# Altium integrated library TI_Logic_Specialty_Logic.IntLib: 2504 symbols (part 64 of 81)
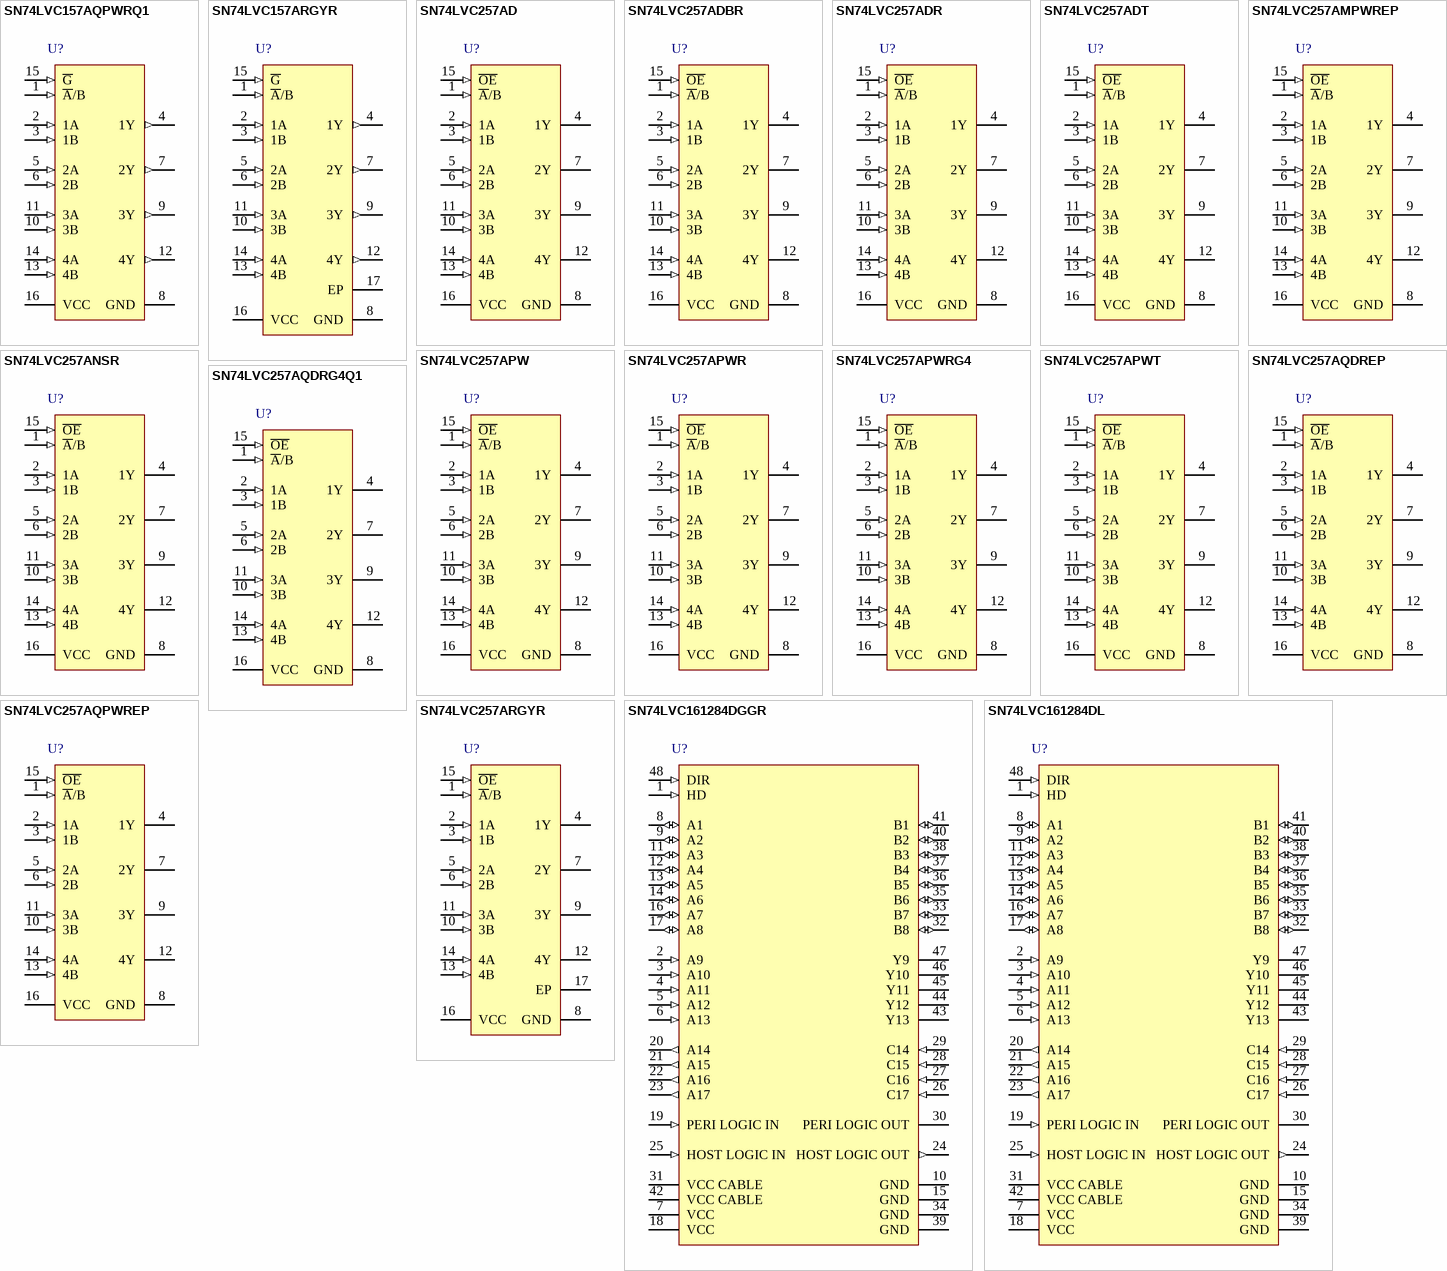
[diagram p167: symbols SN74LVC157AQPWRQ1 to SN74LVC161284DL]

## SN74LVC257AQDRG4Q1
designator U?
Automotive Catalog Quadruple 2-Line To 1-Line Data Selector/Multiplexer With 3-State Outputs, D0016A, LARGE T&R; Generic Part Number: SN74LVC257A-Q1; Manufacturer: Texas Instruments; PartNumber: SN74LVC257AQDRG4Q1; VCC(Min)(V): 2; VCC(Max)(V): 3.6; Output Type: CMOS; ICC @ Nom Voltage(Max)(mA): 0.01; Input Type: TLL/CMOS; F @ Nom Voltage(Max)(Mhz): 100; Channels(#): 4; Technology Family: LVC; Voltage(Nom)(V): 2.7,3.3; Schmitt Trigger: No; Output Drive (IOL/IOH)(Max)(mA): 24/-24; tpd @ Nom Voltage(Max)(ns): 7.5,6.4; DatasheetVersion: SCAS709B; PackageReference: D0016A; Supplier 1: Mouser; Supplier Part Number 1: 595-74LVC257AQDRG4Q1; Supplier 2: Digi-Key; Supplier Part Number 2: 296-24838-2-ND; Supplier 3: Digi-Key; Supplier Part Number 3: 296-24838-1-ND; Supplier 4: Digi-Key; Supplier Part Number 4: 296-24838-6-ND; Bits(#): 2; Operating Temperature Range(C): -40 to 125; Type: 3-State Output; Rating: Automotive; Code_JEDEC: MS-012 variation AC; ComponentLink1Description: Manufacturer URL; ComponentLink1URL: http://www.ti.com/; ComponentLink2Description: Datasheet; ComponentLink2URL: http://www.ti.com/lit/ds/symlink/sn74lvc257a-q1.pdf; ComponentLink3Description: Package Specification; ComponentLink3URL: http://www.ti.com/lit/ml/mpds178g/mpds178g.pdf
footprint D0016A_N (SOIC, 16-Leads, Body 10x4mm, Pitch 1.27mm, IPC Medium Density)
footprint D0016A_M (SOIC, 16-Leads, Body 10x4mm, Pitch 1.27mm, IPC Low Density)
footprint D0016A_L (SOIC, 16-Leads, Body 10x4mm, Pitch 1.27mm, IPC High Density)
pins: 1 ~{A}/B (in), 2 1A (in), 3 1B (in), 4 1Y (hiz), 5 2A (in), 6 2B (in), 7 2Y (hiz), 8 GND (power), 9 3Y (hiz), 10 3B (in), 11 3A (in), 12 4Y (hiz), 13 4B (in), 14 4A (in), 15 ~{OE} (in), 16 VCC (power)

## SN74LVC257AQPWREP
designator U?
Enhanced Product Quadruple 2-Line To 1-Line Data Selector/Multiplexer With 3-State Outputs, PW0016A, LARGE T&R; Generic Part Number: SN74LVC257A-EP; Manufacturer: Texas Instruments; PartNumber: SN74LVC257AQPWREP; VCC(Min)(V): 2; VCC(Max)(V): 3.6; ICC @ Nom Voltage(Max)(mA): 0.01; F @ Nom Voltage(Max)(Mhz): 100; Channels(#): 4; Rating: HiRel Enhanced Product; Technology Family: LVC; Voltage(Nom)(V): 2.7,3.3; Schmitt Trigger: No; Output Drive (IOL/IOH)(Max)(mA): 24/-24; tpd @ Nom Voltage(Max)(ns): 7.5,6.4; DatasheetVersion: SCAS736B; PackageReference: PW0016A; Supplier 1: Mouser; Supplier Part Number 1: 595-N74LVC257AQPWREP; Supplier 2: Digi-Key; Supplier Part Number 2: 296-22357-2-ND; Supplier 3: Digi-Key; Supplier Part Number 3: 296-22357-1-ND; Supplier 4: Digi-Key; Supplier Part Number 4: 296-22357-6-ND; Operating Temperature Range(C): -40 to 125,-55 to 125; Type: 3-State Output; Code_JEDEC: MO-153; ComponentLink1Description: Manufacturer URL; ComponentLink1URL: http://www.ti.com/; ComponentLink2Description: Datasheet; ComponentLink2URL: http://www.ti.com/lit/ds/symlink/sn74lvc257a-ep.pdf; ComponentLink3Description: Package Specification; ComponentLink3URL: http://www.ti.com/lit/ml/mpds361/mpds361.pdf
footprint PW0016A_N (SOP, 16-Leads, Body 5.1x4.5mm, Pitch 0.65mm, IPC Medium Density)
footprint PW0016A_M (SOP, 16-Leads, Body 5.1x4.5mm, Pitch 0.65mm, IPC Low Density)
footprint PW0016A_L (SOP, 16-Leads, Body 5.1x4.5mm, Pitch 0.65mm, IPC High Density)
pins: 1 ~{A}/B (in), 2 1A (in), 3 1B (in), 4 1Y (hiz), 5 2A (in), 6 2B (in), 7 2Y (hiz), 8 GND (power), 9 3Y (hiz), 10 3B (in), 11 3A (in), 12 4Y (hiz), 13 4B (in), 14 4A (in), 15 ~{OE} (in), 16 VCC (power)

## SN74LVC257ARGYR
designator U?
Quadruple 2-Line To 1-Line Data Selector/Multiplexer With 3-State Outputs, RGY0016A, LARGE T&R; Generic Part Number: SN74LVC257A; Manufacturer: Texas Instruments; PartNumber: SN74LVC257ARGYR; VCC(Min)(V): 1.65; VCC(Max)(V): 3.6; Output Type: CMOS; Function: Encoder/Multiplexer; ICC @ Nom Voltage(Max)(mA): 0.01; Input Type: TLL/CMOS; Bits(#): 2; F @ Nom Voltage(Max)(Mhz): 100; Configuration: 2：1; Channels(#): 4; Rating: Catalog; Technology Family: LVC; Voltage(Nom)(V): 1.8,2.5,2.7,3.3; Schmitt Trigger: No; Output Drive (IOL/IOH)(Max)(mA): 24/-24; tpd @ Nom Voltage(Max)(ns): 15.6,9.5,7.5,6.4; DatasheetVersion: SCAS294O; PackageReference: RGY0016A; Supplier 1: Mouser; Supplier Part Number 1: 595-SN74LVC257ARGYR; Supplier 2: Digi-Key; Supplier Part Number 2: 296-13969-2-ND; Supplier 3: Digi-Key; Supplier Part Number 3: 296-13969-1-ND; Supplier 4: Digi-Key; Supplier Part Number 4: 296-13969-6-ND; Operating Temperature Range(C): -40 to 85; Type: 3-State Output; Code_JEDEC: MO-241; ComponentLink1Description: Manufacturer URL; ComponentLink1URL: http://www.ti.com/; ComponentLink2Description: Datasheet; ComponentLink2URL: http://www.ti.com/lit/ds/symlink/sn74lvc257a.pdf; ComponentLink3Description: Package Specification; ComponentLink3URL: http://www.ti.com/lit/ml/mpqf115g/mpqf115g.pdf
footprint RGY0016A_V (QFN, 16-Leads, Body 4x3.5mm, Thermal Pad 2.55x2.05mm, TI Recommend)
pins: 1 ~{A}/B (in) "Select Pin, Low selects A, High selects B", 2 1A (in) "Multiplexer Signal Input", 3 1B (in) "Multiplexer Signal Input", 4 1Y (hiz) "Multiplexer Output", 5 2A (in) "Multiplexer Signal Input", 6 2B (in) "Multiplexer Signal Input", 7 2Y (hiz) "Multiplexer Output", 8 GND (power) "Ground", 9 3Y (hiz) "Multiplexer Output", 10 3B (in) "Multiplexer Signal Input", 11 3A (in) "Multiplexer Signal Input", 12 4Y (hiz) "Multiplexer Output", 13 4B (in) "Multiplexer Signal Input", 14 4A (in) "Multiplexer Signal Input", 15 ~{OE} (in) "Active low Output enable", 16 VCC (power) "Power pin", 17 EP

## SN74LVC161284DGGR
designator U?
19-Bit Bus Interface With 3-State Outputs, DGG0048A, LARGE T&R; Generic Part Number: SN74LVC161284; Manufacturer: Texas Instruments; PartNumber: SN74LVC161284DGGR; VCC(Min)(V): 3; VCC(Max)(V): 3.6; Output Type: CMOS; ICC @ Nom Voltage(Max)(mA): 0.8; Input Type: TTL,CMOS; Bits(#): 19; F @ Nom Voltage(Max)(Mhz): 150; Technology Family: LVC; Voltage(Nom)(V): 3.3; Schmitt Trigger: No; Output Drive (IOL/IOH)(Max)(mA): 84/-14; tpd @ Nom Voltage(Max)(ns): 40; DatasheetVersion: SCAS583J; PackageReference: DGG0048A; Supplier 1: Mouser; Supplier Part Number 1: 595-SNLVC161284DGGR; Supplier 2: Digi-Key; Supplier Part Number 2: 296-8466-2-ND; Supplier 3: Digi-Key; Supplier Part Number 3: 296-8466-1-ND; Supplier 4: Digi-Key; Supplier Part Number 4: 296-8466-6-ND; Operating Temperature Range(C): 0 to 70; Code_JEDEC: MO-153; ComponentLink1Description: Manufacturer URL; ComponentLink1URL: http://www.ti.com/; ComponentLink2Description: Datasheet; ComponentLink2URL: http://www.ti.com/lit/ds/symlink/sn74lvc161284.pdf; ComponentLink3Description: Package Specification; ComponentLink3URL: http://www.ti.com/lit/ml/mtss003d/mtss003d.pdf
footprint DGG0048A_N (TSSOP, 48-Leads, Body 12.6x6.2mm, Pitch 0.5mm, IPC Medium Density)
footprint DGG0048A_M (TSSOP, 48-Leads, Body 12.6x6.2mm, Pitch 0.5mm, IPC Low Density)
footprint DGG0048A_L (TSSOP, 48-Leads, Body 12.6x6.2mm, Pitch 0.5mm, IPC High Density)
pins: 1 HD (in), 2 A9 (in), 3 A10 (in), 4 A11 (in), 5 A12 (in), 6 A13 (in), 7 VCC (power), 8 A1 (io), 9 A2 (io), 10 GND (power), 11 A3 (io), 12 A4 (io), 13 A5 (io), 14 A6 (io), 15 GND (power), 16 A7 (io), 17 A8 (io), 18 VCC (power), 19 PERI LOGIC IN (in), 20 A14 (out), 21 A15 (out), 22 A16 (out), 23 A17 (out), 24 HOST LOGIC OUT (out), 25 HOST LOGIC IN (in), 26 C17 (in), 27 C16 (in), 28 C15 (in), 29 C14 (in), 30 PERI LOGIC OUT (oc), 31 VCC CABLE (power), 32 B8 (io), 33 B7 (io), 34 GND (power), 35 B6 (io), 36 B5 (io), 37 B4 (io), 38 B3 (io), 39 GND (power), 40 B2 (io), 41 B1 (io), 42 VCC CABLE (power), 43 Y13 (oc), 44 Y12 (oc), 45 Y11 (oc), 46 Y10 (oc), 47 Y9 (oc), 48 DIR (in)

## SN74LVC161284DL
designator U?
19-Bit Bus Interface With 3-State Outputs, DL0048A, TUBE; Generic Part Number: SN74LVC161284; Manufacturer: Texas Instruments; PartNumber: SN74LVC161284DL; VCC(Min)(V): 3; VCC(Max)(V): 3.6; Output Type: CMOS; ICC @ Nom Voltage(Max)(mA): 0.8; Input Type: TTL,CMOS; Bits(#): 19; F @ Nom Voltage(Max)(Mhz): 150; Technology Family: LVC; Voltage(Nom)(V): 3.3; Schmitt Trigger: No; Output Drive (IOL/IOH)(Max)(mA): 84/-14; tpd @ Nom Voltage(Max)(ns): 40; DatasheetVersion: SCAS583J; PackageReference: DL0048A; Supplier 1: Mouser; Supplier Part Number 1: 595-SN74LVC161284DL; Supplier 2: Digi-Key; Supplier Part Number 2: 296-8467-5-ND; Operating Temperature Range(C): 0 to 70; Code_JEDEC: MO-118; ComponentLink1Description: Manufacturer URL; ComponentLink1URL: http://www.ti.com/; ComponentLink2Description: Datasheet; ComponentLink2URL: http://www.ti.com/lit/ds/symlink/sn74lvc161284.pdf; ComponentLink3Description: Package Specification; ComponentLink3URL: http://www.ti.com/lit/ml/mpds490/mpds490.pdf
footprint DL0048A_N (SOP, 48-Leads, Body 7.6x16mm, Pitch 0.635mm, IPC Medium Density)
footprint DL0048A_M (SOP, 48-Leads, Body 7.6x16mm, Pitch 0.635mm, IPC Low Density)
footprint DL0048A_L (SOP, 48-Leads, Body 7.6x16mm, Pitch 0.635mm, IPC High Density)
pins: 1 HD (in), 2 A9 (in), 3 A10 (in), 4 A11 (in), 5 A12 (in), 6 A13 (in), 7 VCC (power), 8 A1 (io), 9 A2 (io), 10 GND (power), 11 A3 (io), 12 A4 (io), 13 A5 (io), 14 A6 (io), 15 GND (power), 16 A7 (io), 17 A8 (io), 18 VCC (power), 19 PERI LOGIC IN (in), 20 A14 (out), 21 A15 (out), 22 A16 (out), 23 A17 (out), 24 HOST LOGIC OUT (out), 25 HOST LOGIC IN (in), 26 C17 (in), 27 C16 (in), 28 C15 (in), 29 C14 (in), 30 PERI LOGIC OUT (oc), 31 VCC CABLE (power), 32 B8 (io), 33 B7 (io), 34 GND (power), 35 B6 (io), 36 B5 (io), 37 B4 (io), 38 B3 (io), 39 GND (power), 40 B2 (io), 41 B1 (io), 42 VCC CABLE (power), 43 Y13 (oc), 44 Y12 (oc), 45 Y11 (oc), 46 Y10 (oc), 47 Y9 (oc), 48 DIR (in)

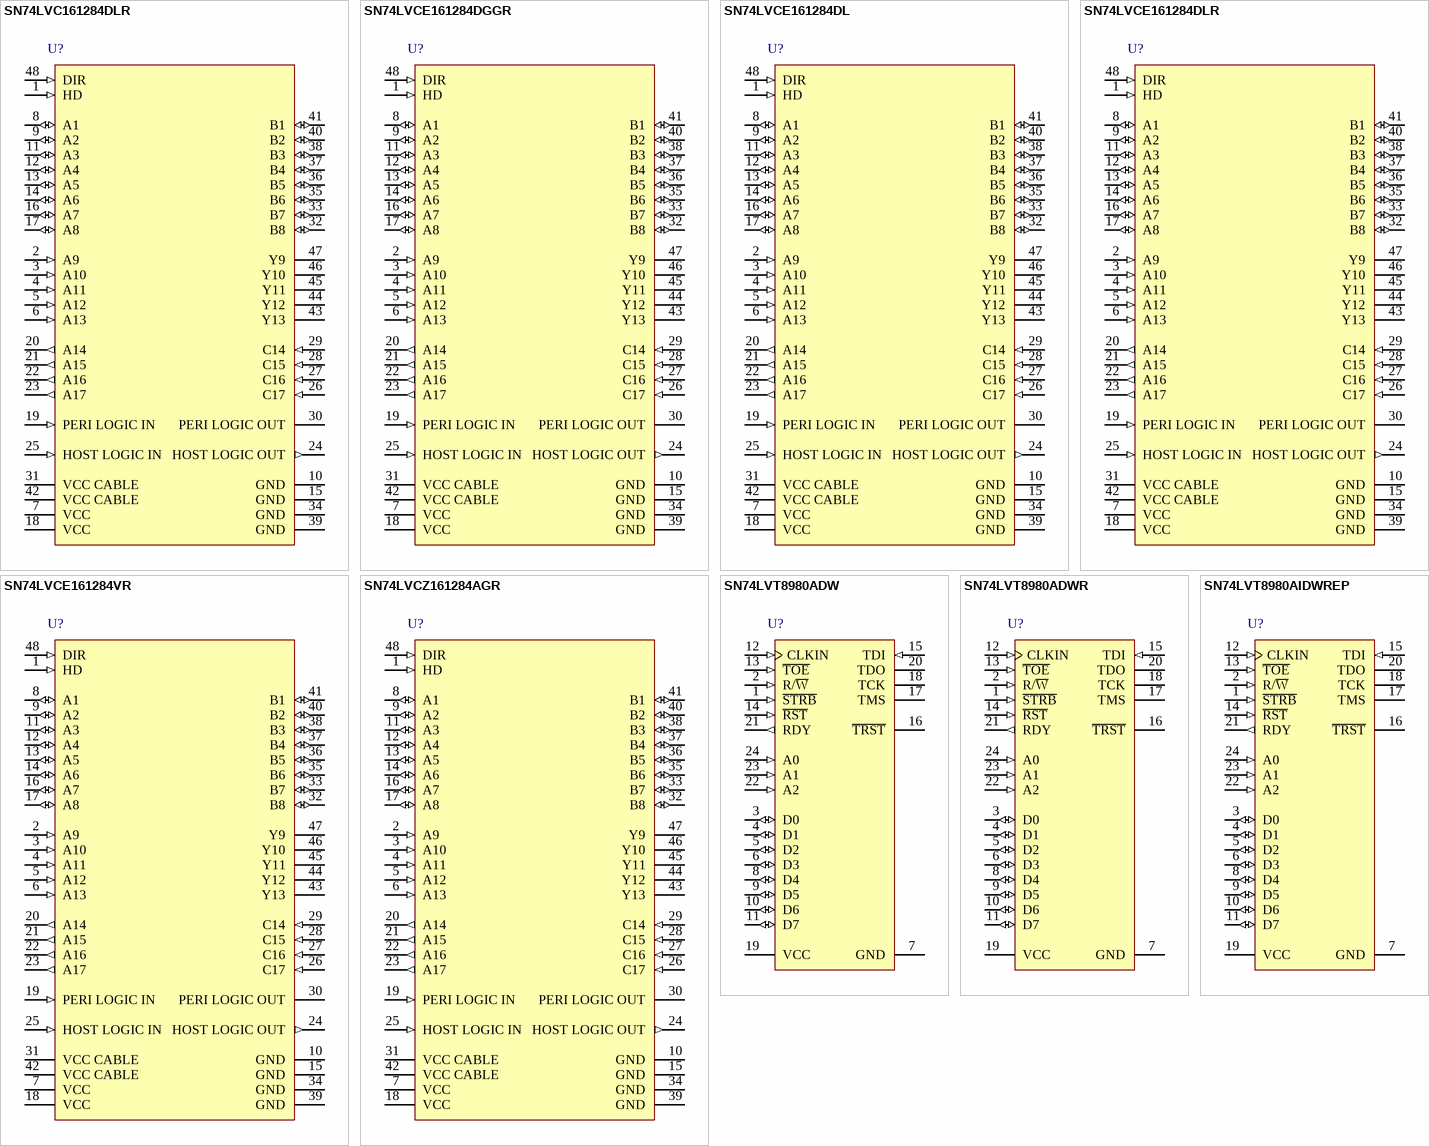
[diagram p81: symbols SN74LVC161284DLR to SN74LVT8980AIDWREP]

## SN74LVC161284DLR
designator U?
19-Bit Bus Interface With 3-State Outputs, DL0048A, LARGE T&R; Generic Part Number: SN74LVC161284; Manufacturer: Texas Instruments; PartNumber: SN74LVC161284DLR; VCC(Min)(V): 3; VCC(Max)(V): 3.6; Output Type: CMOS; ICC @ Nom Voltage(Max)(mA): 0.8; Input Type: TTL,CMOS; Bits(#): 19; F @ Nom Voltage(Max)(Mhz): 150; Technology Family: LVC; Voltage(Nom)(V): 3.3; Schmitt Trigger: No; Output Drive (IOL/IOH)(Max)(mA): 84/-14; tpd @ Nom Voltage(Max)(ns): 40; DatasheetVersion: SCAS583J; PackageReference: DL0048A; Supplier 1: Mouser; Supplier Part Number 1: 595-SN74LVC161284DLR; Supplier 2: Digi-Key; Supplier Part Number 2: 296-8467-2-ND; Supplier 3: Digi-Key; Supplier Part Number 3: 296-8467-1-ND; Supplier 4: Digi-Key; Supplier Part Number 4: 296-8467-6-ND; Operating Temperature Range(C): 0 to 70; Code_JEDEC: MO-118; ComponentLink1Description: Manufacturer URL; ComponentLink1URL: http://www.ti.com/; ComponentLink2Description: Datasheet; ComponentLink2URL: http://www.ti.com/lit/ds/symlink/sn74lvc161284.pdf; ComponentLink3Description: Package Specification; ComponentLink3URL: http://www.ti.com/lit/ml/mpds490/mpds490.pdf
footprint DL0048A_N (SOP, 48-Leads, Body 7.6x16mm, Pitch 0.635mm, IPC Medium Density)
footprint DL0048A_M (SOP, 48-Leads, Body 7.6x16mm, Pitch 0.635mm, IPC Low Density)
footprint DL0048A_L (SOP, 48-Leads, Body 7.6x16mm, Pitch 0.635mm, IPC High Density)
pins: 1 HD (in), 2 A9 (in), 3 A10 (in), 4 A11 (in), 5 A12 (in), 6 A13 (in), 7 VCC (power), 8 A1 (io), 9 A2 (io), 10 GND (power), 11 A3 (io), 12 A4 (io), 13 A5 (io), 14 A6 (io), 15 GND (power), 16 A7 (io), 17 A8 (io), 18 VCC (power), 19 PERI LOGIC IN (in), 20 A14 (out), 21 A15 (out), 22 A16 (out), 23 A17 (out), 24 HOST LOGIC OUT (out), 25 HOST LOGIC IN (in), 26 C17 (in), 27 C16 (in), 28 C15 (in), 29 C14 (in), 30 PERI LOGIC OUT (oc), 31 VCC CABLE (power), 32 B8 (io), 33 B7 (io), 34 GND (power), 35 B6 (io), 36 B5 (io), 37 B4 (io), 38 B3 (io), 39 GND (power), 40 B2 (io), 41 B1 (io), 42 VCC CABLE (power), 43 Y13 (oc), 44 Y12 (oc), 45 Y11 (oc), 46 Y10 (oc), 47 Y9 (oc), 48 DIR (in)

## SN74LVCE161284DGGR
designator U?
19-Bit IEEE 1284 Translation Transceiver with Error-Free Power Up, DGG0048A, LARGE T&R; Generic Part Number: SN74LVCE161284; Manufacturer: Texas Instruments; PartNumber: SN74LVCE161284DGGR; VCC(Min)(V): 3; VCC(Max)(V): 3.6; Output Type: CMOS; ICC @ Nom Voltage(Max)(mA): 0.8; Input Type: TTL,CMOS; Bits(#): 19; F @ Nom Voltage(Max)(Mhz): 150; Technology Family: LVC; Voltage(Nom)(V): 3.3; Schmitt Trigger: No; Output Drive (IOL/IOH)(Max)(mA): 84/-14; tpd @ Nom Voltage(Max)(ns): 30; DatasheetVersion: SCES541; PackageReference: DGG0048A; Supplier 1: Mouser; Supplier Part Number 1: 595-SN74LVCE161284DG; Supplier 2: Digi-Key; Supplier Part Number 2: 296-18822-2-ND; Supplier 3: Digi-Key; Supplier Part Number 3: 296-18822-1-ND; Supplier 4: Digi-Key; Supplier Part Number 4: 296-18822-6-ND; Operating Temperature Range(C): 0 to 70; Code_JEDEC: MO-153; ComponentLink1Description: Manufacturer URL; ComponentLink1URL: http://www.ti.com/; ComponentLink2Description: Datasheet; ComponentLink2URL: http://www.ti.com/lit/ds/symlink/sn74lvce161284.pdf; ComponentLink3Description: Package Specification; ComponentLink3URL: http://www.ti.com/lit/ml/mtss003d/mtss003d.pdf
footprint DGG0048A_N (TSSOP, 48-Leads, Body 12.6x6.2mm, Pitch 0.5mm, IPC Medium Density)
footprint DGG0048A_M (TSSOP, 48-Leads, Body 12.6x6.2mm, Pitch 0.5mm, IPC Low Density)
footprint DGG0048A_L (TSSOP, 48-Leads, Body 12.6x6.2mm, Pitch 0.5mm, IPC High Density)
pins: 1 HD (in), 2 A9 (in), 3 A10 (in), 4 A11 (in), 5 A12 (in), 6 A13 (in), 7 VCC (power), 8 A1 (io), 9 A2 (io), 10 GND (power), 11 A3 (io), 12 A4 (io), 13 A5 (io), 14 A6 (io), 15 GND (power), 16 A7 (io), 17 A8 (io), 18 VCC (power), 19 PERI LOGIC IN (in), 20 A14 (out), 21 A15 (out), 22 A16 (out), 23 A17 (out), 24 HOST LOGIC OUT (out), 25 HOST LOGIC IN (in), 26 C17 (in), 27 C16 (in), 28 C15 (in), 29 C14 (in), 30 PERI LOGIC OUT (oc), 31 VCC CABLE (power), 32 B8 (io), 33 B7 (io), 34 GND (power), 35 B6 (io), 36 B5 (io), 37 B4 (io), 38 B3 (io), 39 GND (power), 40 B2 (io), 41 B1 (io), 42 VCC CABLE (power), 43 Y13 (oc), 44 Y12 (oc), 45 Y11 (oc), 46 Y10 (oc), 47 Y9 (oc), 48 DIR (in)

## SN74LVCE161284DL
designator U?
19-Bit IEEE 1284 Translation Transceiver with Error-Free Power Up, DL0048A, TUBE; Generic Part Number: SN74LVCE161284; Manufacturer: Texas Instruments; PartNumber: SN74LVCE161284DL; VCC(Min)(V): 3; VCC(Max)(V): 3.6; Output Type: CMOS; ICC @ Nom Voltage(Max)(mA): 0.8; Input Type: TTL,CMOS; Bits(#): 19; F @ Nom Voltage(Max)(Mhz): 150; Technology Family: LVC; Voltage(Nom)(V): 3.3; Schmitt Trigger: No; Output Drive (IOL/IOH)(Max)(mA): 84/-14; tpd @ Nom Voltage(Max)(ns): 30; DatasheetVersion: SCES541; PackageReference: DL0048A; Supplier 1: Mouser; Supplier Part Number 1: 595-SN74LVCE161284DL; Supplier 2: Digi-Key; Supplier Part Number 2: SN74LVCE161284DL-ND; Operating Temperature Range(C): 0 to 70; Code_JEDEC: MO-118; ComponentLink1Description: Manufacturer URL; ComponentLink1URL: http://www.ti.com/; ComponentLink2Description: Datasheet; ComponentLink2URL: http://www.ti.com/lit/ds/symlink/sn74lvce161284.pdf; ComponentLink3Description: Package Specification; ComponentLink3URL: http://www.ti.com/lit/ml/mpds490/mpds490.pdf
footprint DL0048A_N (SOP, 48-Leads, Body 7.6x16mm, Pitch 0.635mm, IPC Medium Density)
footprint DL0048A_M (SOP, 48-Leads, Body 7.6x16mm, Pitch 0.635mm, IPC Low Density)
footprint DL0048A_L (SOP, 48-Leads, Body 7.6x16mm, Pitch 0.635mm, IPC High Density)
pins: 1 HD (in), 2 A9 (in), 3 A10 (in), 4 A11 (in), 5 A12 (in), 6 A13 (in), 7 VCC (power), 8 A1 (io), 9 A2 (io), 10 GND (power), 11 A3 (io), 12 A4 (io), 13 A5 (io), 14 A6 (io), 15 GND (power), 16 A7 (io), 17 A8 (io), 18 VCC (power), 19 PERI LOGIC IN (in), 20 A14 (out), 21 A15 (out), 22 A16 (out), 23 A17 (out), 24 HOST LOGIC OUT (out), 25 HOST LOGIC IN (in), 26 C17 (in), 27 C16 (in), 28 C15 (in), 29 C14 (in), 30 PERI LOGIC OUT (oc), 31 VCC CABLE (power), 32 B8 (io), 33 B7 (io), 34 GND (power), 35 B6 (io), 36 B5 (io), 37 B4 (io), 38 B3 (io), 39 GND (power), 40 B2 (io), 41 B1 (io), 42 VCC CABLE (power), 43 Y13 (oc), 44 Y12 (oc), 45 Y11 (oc), 46 Y10 (oc), 47 Y9 (oc), 48 DIR (in)

## SN74LVCE161284DLR
designator U?
19-Bit IEEE 1284 Translation Transceiver with Error-Free Power Up, DL0048A, LARGE T&R; Generic Part Number: SN74LVCE161284; Manufacturer: Texas Instruments; PartNumber: SN74LVCE161284DLR; VCC(Min)(V): 3; VCC(Max)(V): 3.6; Output Type: CMOS; ICC @ Nom Voltage(Max)(mA): 0.8; Input Type: TTL,CMOS; Bits(#): 19; F @ Nom Voltage(Max)(Mhz): 150; Technology Family: LVC; Voltage(Nom)(V): 3.3; Schmitt Trigger: No; Output Drive (IOL/IOH)(Max)(mA): 84/-14; tpd @ Nom Voltage(Max)(ns): 30; DatasheetVersion: SCES541; PackageReference: DL0048A; Supplier 1: Mouser; Supplier Part Number 1: 595-SN74LVCE161284LR; Supplier 2: Digi-Key; Supplier Part Number 2: 296-16922-2-ND; Supplier 3: Digi-Key; Supplier Part Number 3: 296-16922-1-ND; Supplier 4: Digi-Key; Supplier Part Number 4: 296-16922-6-ND; Operating Temperature Range(C): 0 to 70; Code_JEDEC: MO-118; ComponentLink1Description: Manufacturer URL; ComponentLink1URL: http://www.ti.com/; ComponentLink2Description: Datasheet; ComponentLink2URL: http://www.ti.com/lit/ds/symlink/sn74lvce161284.pdf; ComponentLink3Description: Package Specification; ComponentLink3URL: http://www.ti.com/lit/ml/mpds490/mpds490.pdf
footprint DL0048A_N (SOP, 48-Leads, Body 7.6x16mm, Pitch 0.635mm, IPC Medium Density)
footprint DL0048A_M (SOP, 48-Leads, Body 7.6x16mm, Pitch 0.635mm, IPC Low Density)
footprint DL0048A_L (SOP, 48-Leads, Body 7.6x16mm, Pitch 0.635mm, IPC High Density)
pins: 1 HD (in), 2 A9 (in), 3 A10 (in), 4 A11 (in), 5 A12 (in), 6 A13 (in), 7 VCC (power), 8 A1 (io), 9 A2 (io), 10 GND (power), 11 A3 (io), 12 A4 (io), 13 A5 (io), 14 A6 (io), 15 GND (power), 16 A7 (io), 17 A8 (io), 18 VCC (power), 19 PERI LOGIC IN (in), 20 A14 (out), 21 A15 (out), 22 A16 (out), 23 A17 (out), 24 HOST LOGIC OUT (out), 25 HOST LOGIC IN (in), 26 C17 (in), 27 C16 (in), 28 C15 (in), 29 C14 (in), 30 PERI LOGIC OUT (oc), 31 VCC CABLE (power), 32 B8 (io), 33 B7 (io), 34 GND (power), 35 B6 (io), 36 B5 (io), 37 B4 (io), 38 B3 (io), 39 GND (power), 40 B2 (io), 41 B1 (io), 42 VCC CABLE (power), 43 Y13 (oc), 44 Y12 (oc), 45 Y11 (oc), 46 Y10 (oc), 47 Y9 (oc), 48 DIR (in)

## SN74LVCE161284VR
designator U?
19-Bit IEEE 1284 Translation Transceiver with Error-Free Power Up, DGV0048A, LARGE T&R; Generic Part Number: SN74LVCE161284; Manufacturer: Texas Instruments; PartNumber: SN74LVCE161284VR; VCC(Min)(V): 3; VCC(Max)(V): 3.6; Output Type: CMOS; ICC @ Nom Voltage(Max)(mA): 0.8; Input Type: TTL,CMOS; Bits(#): 19; F @ Nom Voltage(Max)(Mhz): 150; Technology Family: LVC; Voltage(Nom)(V): 3.3; Schmitt Trigger: No; Output Drive (IOL/IOH)(Max)(mA): 84/-14; tpd @ Nom Voltage(Max)(ns): 30; DatasheetVersion: SCES541; PackageReference: DGV0048A; Supplier 1: Mouser; Supplier Part Number 1: 595-SN74LVCE161284VR; Supplier 2: Digi-Key; Supplier Part Number 2: 296-18824-2-ND; Supplier 3: Digi-Key; Supplier Part Number 3: 296-18824-1-ND; Supplier 4: Digi-Key; Supplier Part Number 4: 296-18824-6-ND; Operating Temperature Range(C): 0 to 70; Code_JEDEC: MO-153; ComponentLink1Description: Manufacturer URL; ComponentLink1URL: http://www.ti.com/; ComponentLink2Description: Datasheet; ComponentLink2URL: http://www.ti.com/lit/ds/symlink/sn74lvce161284.pdf; ComponentLink3Description: Package Specification; ComponentLink3URL: http://www.ti.com/lit/ml/mpds006c/mpds006c.pdf
footprint DGV0048A_N (SOP, 48-Leads, Body 4.5x9.8mm, Pitch 0.4mm, IPC Medium Density)
footprint DGV0048A_M (SOP, 48-Leads, Body 4.5x9.8mm, Pitch 0.4mm, IPC Low Density)
footprint DGV0048A_L (SOP, 48-Leads, Body 4.5x9.8mm, Pitch 0.4mm, IPC High Density)
pins: 1 HD (in), 2 A9 (in), 3 A10 (in), 4 A11 (in), 5 A12 (in), 6 A13 (in), 7 VCC (power), 8 A1 (io), 9 A2 (io), 10 GND (power), 11 A3 (io), 12 A4 (io), 13 A5 (io), 14 A6 (io), 15 GND (power), 16 A7 (io), 17 A8 (io), 18 VCC (power), 19 PERI LOGIC IN (in), 20 A14 (out), 21 A15 (out), 22 A16 (out), 23 A17 (out), 24 HOST LOGIC OUT (out), 25 HOST LOGIC IN (in), 26 C17 (in), 27 C16 (in), 28 C15 (in), 29 C14 (in), 30 PERI LOGIC OUT (oc), 31 VCC CABLE (power), 32 B8 (io), 33 B7 (io), 34 GND (power), 35 B6 (io), 36 B5 (io), 37 B4 (io), 38 B3 (io), 39 GND (power), 40 B2 (io), 41 B1 (io), 42 VCC CABLE (power), 43 Y13 (oc), 44 Y12 (oc), 45 Y11 (oc), 46 Y10 (oc), 47 Y9 (oc), 48 DIR (in)

## SN74LVCZ161284AGR
designator U?
19-Bit IEEE 1284 Std Bus Interface, DGG0048A, LARGE T&R; Generic Part Number: SN74LVCZ161284A; Manufacturer: Texas Instruments; PartNumber: SN74LVCZ161284AGR; VCC(Min)(V): 3; VCC(Max)(V): 3.6; Output Type: CMOS; ICC @ Nom Voltage(Max)(mA): 0.8; Input Type: TTL,CMOS; Bits(#): 19; F @ Nom Voltage(Max)(Mhz): 150; Technology Family: LVC; Voltage(Nom)(V): 3.3; Schmitt Trigger: No; Output Drive (IOL/IOH)(Max)(mA): 84/-14; tpd @ Nom Voltage(Max)(ns): 22; DatasheetVersion: SCES358B; PackageReference: DGG0048A; Supplier 1: Mouser; Supplier Part Number 1: 595-74LVCZ161284AGR; Supplier 2: Digi-Key; Supplier Part Number 2: 296-12025-2-ND; Supplier 3: Digi-Key; Supplier Part Number 3: 296-12025-1-ND; Supplier 4: Digi-Key; Supplier Part Number 4: 296-12025-6-ND; Operating Temperature Range(C): 0 to 70; Code_JEDEC: MO-153; ComponentLink1Description: Manufacturer URL; ComponentLink1URL: http://www.ti.com/; ComponentLink2Description: Datasheet; ComponentLink2URL: http://www.ti.com/lit/ds/symlink/sn74lvcz161284a.pdf; ComponentLink3Description: Package Specification; ComponentLink3URL: http://www.ti.com/lit/ml/mtss003d/mtss003d.pdf
footprint DGG0048A_N (TSSOP, 48-Leads, Body 12.6x6.2mm, Pitch 0.5mm, IPC Medium Density)
footprint DGG0048A_M (TSSOP, 48-Leads, Body 12.6x6.2mm, Pitch 0.5mm, IPC Low Density)
footprint DGG0048A_L (TSSOP, 48-Leads, Body 12.6x6.2mm, Pitch 0.5mm, IPC High Density)
pins: 1 HD (in), 2 A9 (in), 3 A10 (in), 4 A11 (in), 5 A12 (in), 6 A13 (in), 7 VCC (power), 8 A1 (io), 9 A2 (io), 10 GND (power), 11 A3 (io), 12 A4 (io), 13 A5 (io), 14 A6 (io), 15 GND (power), 16 A7 (io), 17 A8 (io), 18 VCC (power), 19 PERI LOGIC IN (in), 20 A14 (out), 21 A15 (out), 22 A16 (out), 23 A17 (out), 24 HOST LOGIC OUT (out), 25 HOST LOGIC IN (in), 26 C17 (in), 27 C16 (in), 28 C15 (in), 29 C14 (in), 30 PERI LOGIC OUT (oc), 31 VCC CABLE (power), 32 B8 (io), 33 B7 (io), 34 GND (power), 35 B6 (io), 36 B5 (io), 37 B4 (io), 38 B3 (io), 39 GND (power), 40 B2 (io), 41 B1 (io), 42 VCC CABLE (power), 43 Y13 (oc), 44 Y12 (oc), 45 Y11 (oc), 46 Y10 (oc), 47 Y9 (oc), 48 DIR (in)

## SN74LVT8980ADW
designator U?
Embedded Test-Bus Controllers IEEE STD 1149.1 (JTAG) TAP Masters W/ 8-Bit Generic Host Interfaces, DW0024A, TUBE; Generic Part Number: SN74LVT8980A; Manufacturer: Texas Instruments; PartNumber: SN74LVT8980ADW; VCC(Min)(V): 2.7; VCC(Max)(V): 3.6; Output Type: LVTTL; Input Type: TTL/CMOS; Bits(#): 8; Rating: Catalog; Technology Family: LVT; Output Drive (IOL/IOH)(Max)(mA): 64/-32; tpd @ Nom Voltage(Max)(ns): 30; DatasheetVersion: SCBS755B; PackageReference: DW0024A; Supplier 1: Mouser; Supplier Part Number 1: 595-SN74LVT8980ADW; Supplier 2: Digi-Key; Supplier Part Number 2: 296-13498-5-ND; Operating Temperature Range(C): -40 to 85; ComponentLink1Description: Manufacturer URL; ComponentLink1URL: http://www.ti.com/; ComponentLink2Description: Datasheet; ComponentLink2URL: http://www.ti.com/lit/ds/symlink/sn74lvt8980a.pdf
footprint DW0024A_N (SOIC, 24-Leads, Body 15.6x7.6mm, Pitch 1.27mm, IPC Medium Density)
footprint DW0024A_M (SOIC, 24-Leads, Body 15.6x7.6mm, Pitch 1.27mm, IPC Low Density)
footprint DW0024A_L (SOIC, 24-Leads, Body 15.6x7.6mm, Pitch 1.27mm, IPC High Density)
pins: 1 ~{STRB} (in) "Read/write strobe. S\T\R\B\ is used by the microprocessor/microcontroller host to instruct the eTBC to initiate (S\T\R\B\ negative edge) or terminate/conclude (S\T\R\B\ positive edge) an access (read or write) operation. An (See Datasheet)", 2 R/~{W} (in) "Read/write select. R/W\ is used by the microprocessor/microcontroller host to instruct the eTBC as to whether it is to perform read access (R/W\ high) or write access (R/W\ low). While R/W is high and S\T\R\B\ is low, the (See Datasheet)", 3 D0 (io) "Data inputs/outputs. D7-D0 form the 8-bit bidirectional data bus that interfaces the eTBC to its microprocessor/microcontroller host. Data in the eTBC registers is accessed (read or written) using this data bus. D7 i(See Datasheet)", 4 D1 (io) "Data inputs/outputs. D7-D0 form the 8-bit bidirectional data bus that interfaces the eTBC to its microprocessor/microcontroller host. Data in the eTBC registers is accessed (read or written) using this data bus. D7 i(See Datasheet)", 5 D2 (io) "Data inputs/outputs. D7-D0 form the 8-bit bidirectional data bus that interfaces the eTBC to its microprocessor/microcontroller host. Data in the eTBC registers is accessed (read or written) using this data bus. D7 i(See Datasheet)", 6 D3 (io) "Data inputs/outputs. D7-D0 form the 8-bit bidirectional data bus that interfaces the eTBC to its microprocessor/microcontroller host. Data in the eTBC registers is accessed (read or written) using this data bus. D7 i(See Datasheet)", 7 GND (power) "Ground", 8 D4 (io) "Data inputs/outputs. D7-D0 form the 8-bit bidirectional data bus that interfaces the eTBC to its microprocessor/microcontroller host. Data in the eTBC registers is accessed (read or written) using this data bus. D7 i(See Datasheet)", 9 D5 (io) "Data inputs/outputs. D7-D0 form the 8-bit bidirectional data bus that interfaces the eTBC to its microprocessor/microcontroller host. Data in the eTBC registers is accessed (read or written) using this data bus. D7 i(See Datasheet)", 10 D6 (io) "Data inputs/outputs. D7-D0 form the 8-bit bidirectional data bus that interfaces the eTBC to its microprocessor/microcontroller host. Data in the eTBC registers is accessed (read or written) using this data bus. D7 i(See Datasheet)", 11 D7 (io) "Data inputs/outputs. D7-D0 form the 8-bit bidirectional data bus that interfaces the eTBC to its microprocessor/microcontroller host. Data in the eTBC registers is accessed (read or written) using this data bus. D7 i(See Datasheet)", 12 CLKIN (in) "Clock input. CLKIN is the system clock input for the eTBC. Most operations of the eTBC are synchronous to CLKIN. Internally,the CLKIN signal is divided by a programmable divisor to generate TCK.", 13 ~{TOE} (in) "Test-output enable. T\O\E\ is the active-low output enable for the eTBC TAP outputs (TCK, TDO, TMS, T\R\S\T\). When T\O\E\ is inactive (high) the TAP outputs are disabled to a high-impedance state. Otherwise, when T\O\E\ is (See Datasheet)", 14 ~{RST} (in) "Reset input. R\S\T\ is used to initiate asynchronous reset of the eTBC. Assertion (low) of R\S\T\ places the eTBC in a reset state,from which it does not exit until R\S\T\ is released (high). While R\S\T\ is low, the eTBC (See Datasheet)", 15 TDI (in) "Test data input. TDI receives the TDI signal output by the eTBC IEEE Std 1149.1 target(s). It is the serial input for shifting test data from the target(s); it is sampled on the rising edge of TCK and is expected to be (See Datasheet)", 16 ~{TRST} (hiz) "Test reset. T\R\S\T\ transmits the T\R\S\T\ signal that may be required by some of the eTBC IEEE Std 1149.1 target(s). A low signal at T\R\S\T\ is intended to initiate asynchronous test reset of the connected target(s). Such (See Datasheet)", 17 TMS (hiz) "Test mode select. TMS transmits the TMS signal required by the eTBC IEEE Std 1149.1 target(s). It is the one control signal that directs the next TAP-controller state of the target(s). It is transferred from the eTBC on the (See Datasheet)", 18 TCK (hiz) "Test clock. TCK transmits the TCK signal required by the eTBC IEEE Std 1149.1 target(s). All operations of the TAP are synchronous to TCK. Generally, the TCK signal is generated internally by the eTBC by division of CLKIN by (See Datasheet)", 19 VCC (power) "Supply voltage", 20 TDO (hiz) "Test data output. TDO transmits the TDO signal required by the eTBC IEEE Std 1149.1 target(s). It is the serial output for shifting test data to the target(s); it is transferred on the falling edge of TCK and is sampled in (See Datasheet)", 21 RDY (out) "Ready output. RDY is used to indicate to the microprocessor/microcontroller host whether or not the eTBC is ready to service the access (read or write) operation that currently is being requested. If RDY remains high (See Datasheet)", 22 A2 (in) "Address inputs. A2-A0 form the 3-bit address bus that interfaces the eTBC to its microprocessor/microcontroller host. These inputs directly index the eTBC register to be accessed (read from or written to).", 23 A1 (in) "Address inputs. A2-A0 form the 3-bit address bus that interfaces the eTBC to its microprocessor/microcontroller host. These inputs directly index the eTBC register to be accessed (read from or written to).", 24 A0 (in) "Address inputs. A2-A0 form the 3-bit address bus that interfaces the eTBC to its microprocessor/microcontroller host. These inputs directly index the eTBC register to be accessed (read from or written to)."

## SN74LVT8980ADWR
designator U?
Embedded Test-Bus Controllers IEEE STD 1149.1 (JTAG) TAP Masters W/ 8-Bit Generic Host Interfaces, DW0024A, LARGE T&R; Generic Part Number: SN74LVT8980A; Manufacturer: Texas Instruments; PartNumber: SN74LVT8980ADWR; VCC(Min)(V): 2.7; VCC(Max)(V): 3.6; Output Type: LVTTL; Input Type: TTL/CMOS; Bits(#): 8; Rating: Catalog; Technology Family: LVT; Output Drive (IOL/IOH)(Max)(mA): 64/-32; tpd @ Nom Voltage(Max)(ns): 30; DatasheetVersion: SCBS755B; PackageReference: DW0024A; Supplier 1: Mouser; Supplier Part Number 1: 595-SN74LVT8980ADWR; Supplier 2: Digi-Key; Supplier Part Number 2: 296-15986-2-ND; Supplier 3: Digi-Key; Supplier Part Number 3: 296-15986-1-ND; Supplier 4: Digi-Key; Supplier Part Number 4: 296-15986-6-ND; Operating Temperature Range(C): -40 to 85; ComponentLink1Description: Manufacturer URL; ComponentLink1URL: http://www.ti.com/; ComponentLink2Description: Datasheet; ComponentLink2URL: http://www.ti.com/lit/ds/symlink/sn74lvt8980a.pdf
footprint DW0024A_N (SOIC, 24-Leads, Body 15.6x7.6mm, Pitch 1.27mm, IPC Medium Density)
footprint DW0024A_M (SOIC, 24-Leads, Body 15.6x7.6mm, Pitch 1.27mm, IPC Low Density)
footprint DW0024A_L (SOIC, 24-Leads, Body 15.6x7.6mm, Pitch 1.27mm, IPC High Density)
pins: 1 ~{STRB} (in) "Read/write strobe. S\T\R\B\ is used by the microprocessor/microcontroller host to instruct the eTBC to initiate (S\T\R\B\ negative edge) or terminate/conclude (S\T\R\B\ positive edge) an access (read or write) operation. An (See Datasheet)", 2 R/~{W} (in) "Read/write select. R/W\ is used by the microprocessor/microcontroller host to instruct the eTBC as to whether it is to perform read access (R/W\ high) or write access (R/W\ low). While R/W is high and S\T\R\B\ is low, the (See Datasheet)", 3 D0 (io) "Data inputs/outputs. D7-D0 form the 8-bit bidirectional data bus that interfaces the eTBC to its microprocessor/microcontroller host. Data in the eTBC registers is accessed (read or written) using this data bus. D7 i(See Datasheet)", 4 D1 (io) "Data inputs/outputs. D7-D0 form the 8-bit bidirectional data bus that interfaces the eTBC to its microprocessor/microcontroller host. Data in the eTBC registers is accessed (read or written) using this data bus. D7 i(See Datasheet)", 5 D2 (io) "Data inputs/outputs. D7-D0 form the 8-bit bidirectional data bus that interfaces the eTBC to its microprocessor/microcontroller host. Data in the eTBC registers is accessed (read or written) using this data bus. D7 i(See Datasheet)", 6 D3 (io) "Data inputs/outputs. D7-D0 form the 8-bit bidirectional data bus that interfaces the eTBC to its microprocessor/microcontroller host. Data in the eTBC registers is accessed (read or written) using this data bus. D7 i(See Datasheet)", 7 GND (power) "Ground", 8 D4 (io) "Data inputs/outputs. D7-D0 form the 8-bit bidirectional data bus that interfaces the eTBC to its microprocessor/microcontroller host. Data in the eTBC registers is accessed (read or written) using this data bus. D7 i(See Datasheet)", 9 D5 (io) "Data inputs/outputs. D7-D0 form the 8-bit bidirectional data bus that interfaces the eTBC to its microprocessor/microcontroller host. Data in the eTBC registers is accessed (read or written) using this data bus. D7 i(See Datasheet)", 10 D6 (io) "Data inputs/outputs. D7-D0 form the 8-bit bidirectional data bus that interfaces the eTBC to its microprocessor/microcontroller host. Data in the eTBC registers is accessed (read or written) using this data bus. D7 i(See Datasheet)", 11 D7 (io) "Data inputs/outputs. D7-D0 form the 8-bit bidirectional data bus that interfaces the eTBC to its microprocessor/microcontroller host. Data in the eTBC registers is accessed (read or written) using this data bus. D7 i(See Datasheet)", 12 CLKIN (in) "Clock input. CLKIN is the system clock input for the eTBC. Most operations of the eTBC are synchronous to CLKIN. Internally,the CLKIN signal is divided by a programmable divisor to generate TCK.", 13 ~{TOE} (in) "Test-output enable. T\O\E\ is the active-low output enable for the eTBC TAP outputs (TCK, TDO, TMS, T\R\S\T\). When T\O\E\ is inactive (high) the TAP outputs are disabled to a high-impedance state. Otherwise, when T\O\E\ is (See Datasheet)", 14 ~{RST} (in) "Reset input. R\S\T\ is used to initiate asynchronous reset of the eTBC. Assertion (low) of R\S\T\ places the eTBC in a reset state,from which it does not exit until R\S\T\ is released (high). While R\S\T\ is low, the eTBC (See Datasheet)", 15 TDI (in) "Test data input. TDI receives the TDI signal output by the eTBC IEEE Std 1149.1 target(s). It is the serial input for shifting test data from the target(s); it is sampled on the rising edge of TCK and is expected to be (See Datasheet)", 16 ~{TRST} (hiz) "Test reset. T\R\S\T\ transmits the T\R\S\T\ signal that may be required by some of the eTBC IEEE Std 1149.1 target(s). A low signal at T\R\S\T\ is intended to initiate asynchronous test reset of the connected target(s). Such (See Datasheet)", 17 TMS (hiz) "Test mode select. TMS transmits the TMS signal required by the eTBC IEEE Std 1149.1 target(s). It is the one control signal that directs the next TAP-controller state of the target(s). It is transferred from the eTBC on the (See Datasheet)", 18 TCK (hiz) "Test clock. TCK transmits the TCK signal required by the eTBC IEEE Std 1149.1 target(s). All operations of the TAP are synchronous to TCK. Generally, the TCK signal is generated internally by the eTBC by division of CLKIN by (See Datasheet)", 19 VCC (power) "Supply voltage", 20 TDO (hiz) "Test data output. TDO transmits the TDO signal required by the eTBC IEEE Std 1149.1 target(s). It is the serial output for shifting test data to the target(s); it is transferred on the falling edge of TCK and is sampled in (See Datasheet)", 21 RDY (out) "Ready output. RDY is used to indicate to the microprocessor/microcontroller host whether or not the eTBC is ready to service the access (read or write) operation that currently is being requested. If RDY remains high (See Datasheet)", 22 A2 (in) "Address inputs. A2-A0 form the 3-bit address bus that interfaces the eTBC to its microprocessor/microcontroller host. These inputs directly index the eTBC register to be accessed (read from or written to).", 23 A1 (in) "Address inputs. A2-A0 form the 3-bit address bus that interfaces the eTBC to its microprocessor/microcontroller host. These inputs directly index the eTBC register to be accessed (read from or written to).", 24 A0 (in) "Address inputs. A2-A0 form the 3-bit address bus that interfaces the eTBC to its microprocessor/microcontroller host. These inputs directly index the eTBC register to be accessed (read from or written to)."

## SN74LVT8980AIDWREP
designator U?
Enhanced Product Embedded Test-Bus Controllers Ieee Std 1149.1 (Jtag) Tap Masters, DW0024A, LARGE T&R; Generic Part Number: SN74LVT8980A-EP; Manufacturer: Texas Instruments; PartNumber: SN74LVT8980AIDWREP; VCC(Min)(V): 2.7; VCC(Max)(V): 3.6; Output Type: LVTTL; Input Type: TTL/CMOS; Bits(#): 8; Rating: HiRel Enhanced Product; Technology Family: LVT; Output Drive (IOL/IOH)(Max)(mA): 64/-32; tpd @ Nom Voltage(Max)(ns): 30; DatasheetVersion: SCBS761A; PackageReference: DW0024A; Supplier 1: Mouser; Supplier Part Number 1: 595-SN74L8980AIDWREP; Supplier 2: Digi-Key; Supplier Part Number 2: 296-22384-2-ND; Supplier 3: Digi-Key; Supplier Part Number 3: 296-22384-1-ND; Supplier 4: Digi-Key; Supplier Part Number 4: 296-22384-6-ND; Operating Temperature Range(C): -40 to 85; ComponentLink1Description: Manufacturer URL; ComponentLink1URL: http://www.ti.com/; ComponentLink2Description: Datasheet; ComponentLink2URL: http://www.ti.com/lit/ds/symlink/sn74lvt8980a-ep.pdf
footprint DW0024A_N (SOIC, 24-Leads, Body 15.6x7.6mm, Pitch 1.27mm, IPC Medium Density)
footprint DW0024A_M (SOIC, 24-Leads, Body 15.6x7.6mm, Pitch 1.27mm, IPC Low Density)
footprint DW0024A_L (SOIC, 24-Leads, Body 15.6x7.6mm, Pitch 1.27mm, IPC High Density)
pins: 1 ~{STRB} (in) "Read/write strobe. S\T\R\B\ is used by the microprocessor/microcontroller host to instruct the eTBC to initiate (S\T\R\B\ negative edge) or terminate/conclude (S\T\R\B\ positive edge) an access (read or write) operation. An (See Datasheet)", 2 R/~{W} (in) "Read/write select. R/W\ is used by the microprocessor/microcontroller host to instruct the eTBC as to whether it is to perform read access (R/W\ high) or write access (R/W\ low). While R/W is high and S\T\R\B\ is low, the (See Datasheet)", 3 D0 (io) "Data inputs/outputs. D7-D0 form the 8-bit bidirectional data bus that interfaces the eTBC to its microprocessor/microcontroller host. Data in the eTBC registers is accessed (read or written) using this data bus. D7 i(See Datasheet)", 4 D1 (io) "Data inputs/outputs. D7-D0 form the 8-bit bidirectional data bus that interfaces the eTBC to its microprocessor/microcontroller host. Data in the eTBC registers is accessed (read or written) using this data bus. D7 i(See Datasheet)", 5 D2 (io) "Data inputs/outputs. D7-D0 form the 8-bit bidirectional data bus that interfaces the eTBC to its microprocessor/microcontroller host. Data in the eTBC registers is accessed (read or written) using this data bus. D7 i(See Datasheet)", 6 D3 (io) "Data inputs/outputs. D7-D0 form the 8-bit bidirectional data bus that interfaces the eTBC to its microprocessor/microcontroller host. Data in the eTBC registers is accessed (read or written) using this data bus. D7 i(See Datasheet)", 7 GND (power) "Ground", 8 D4 (io) "Data inputs/outputs. D7-D0 form the 8-bit bidirectional data bus that interfaces the eTBC to its microprocessor/microcontroller host. Data in the eTBC registers is accessed (read or written) using this data bus. D7 i(See Datasheet)", 9 D5 (io) "Data inputs/outputs. D7-D0 form the 8-bit bidirectional data bus that interfaces the eTBC to its microprocessor/microcontroller host. Data in the eTBC registers is accessed (read or written) using this data bus. D7 i(See Datasheet)", 10 D6 (io) "Data inputs/outputs. D7-D0 form the 8-bit bidirectional data bus that interfaces the eTBC to its microprocessor/microcontroller host. Data in the eTBC registers is accessed (read or written) using this data bus. D7 i(See Datasheet)", 11 D7 (io) "Data inputs/outputs. D7-D0 form the 8-bit bidirectional data bus that interfaces the eTBC to its microprocessor/microcontroller host. Data in the eTBC registers is accessed (read or written) using this data bus. D7 i(See Datasheet)", 12 CLKIN (in) "Clock input. CLKIN is the system clock input for the eTBC. Most operations of the eTBC are synchronous to CLKIN. Internally,the CLKIN signal is divided by a programmable divisor to generate TCK.", 13 ~{TOE} (in) "Test-output enable. T\O\E\ is the active-low output enable for the eTBC TAP outputs (TCK, TDO, TMS, T\R\S\T\). When T\O\E\ is inactive (high) the TAP outputs are disabled to a high-impedance state. Otherwise, when T\O\E\ is (See Datasheet)", 14 ~{RST} (in) "Reset input. R\S\T\ is used to initiate asynchronous reset of the eTBC. Assertion (low) of R\S\T\ places the eTBC in a reset state,from which it does not exit until R\S\T\ is released (high). While R\S\T\ is low, the eTBC (See Datasheet)", 15 TDI (in) "Test data input. TDI receives the TDI signal output by the eTBC IEEE Std 1149.1 target(s). It is the serial input for shifting test data from the target(s); it is sampled on the rising edge of TCK and is expected to be (See Datasheet)", 16 ~{TRST} (hiz) "Test reset. T\R\S\T\ transmits the T\R\S\T\ signal that may be required by some of the eTBC IEEE Std 1149.1 target(s). A low signal at T\R\S\T\ is intended to initiate asynchronous test reset of the connected target(s). Such (See Datasheet)", 17 TMS (hiz) "Test mode select. TMS transmits the TMS signal required by the eTBC IEEE Std 1149.1 target(s). It is the one control signal that directs the next TAP-controller state of the target(s). It is transferred from the eTBC on the (See Datasheet)", 18 TCK (hiz) "Test clock. TCK transmits the TCK signal required by the eTBC IEEE Std 1149.1 target(s). All operations of the TAP are synchronous to TCK. Generally, the TCK signal is generated internally by the eTBC by division of CLKIN by (See Datasheet)", 19 VCC (power) "Supply voltage", 20 TDO (hiz) "Test data output. TDO transmits the TDO signal required by the eTBC IEEE Std 1149.1 target(s). It is the serial output for shifting test data to the target(s); it is transferred on the falling edge of TCK and is sampled in (See Datasheet)", 21 RDY (out) "Ready output. RDY is used to indicate to the microprocessor/microcontroller host whether or not the eTBC is ready to service the access (read or write) operation that currently is being requested. If RDY remains high (See Datasheet)", 22 A2 (in) "Address inputs. A2-A0 form the 3-bit address bus that interfaces the eTBC to its microprocessor/microcontroller host. These inputs directly index the eTBC register to be accessed (read from or written to).", 23 A1 (in) "Address inputs. A2-A0 form the 3-bit address bus that interfaces the eTBC to its microprocessor/microcontroller host. These inputs directly index the eTBC register to be accessed (read from or written to).", 24 A0 (in) "Address inputs. A2-A0 form the 3-bit address bus that interfaces the eTBC to its microprocessor/microcontroller host. These inputs directly index the eTBC register to be accessed (read from or written to)."

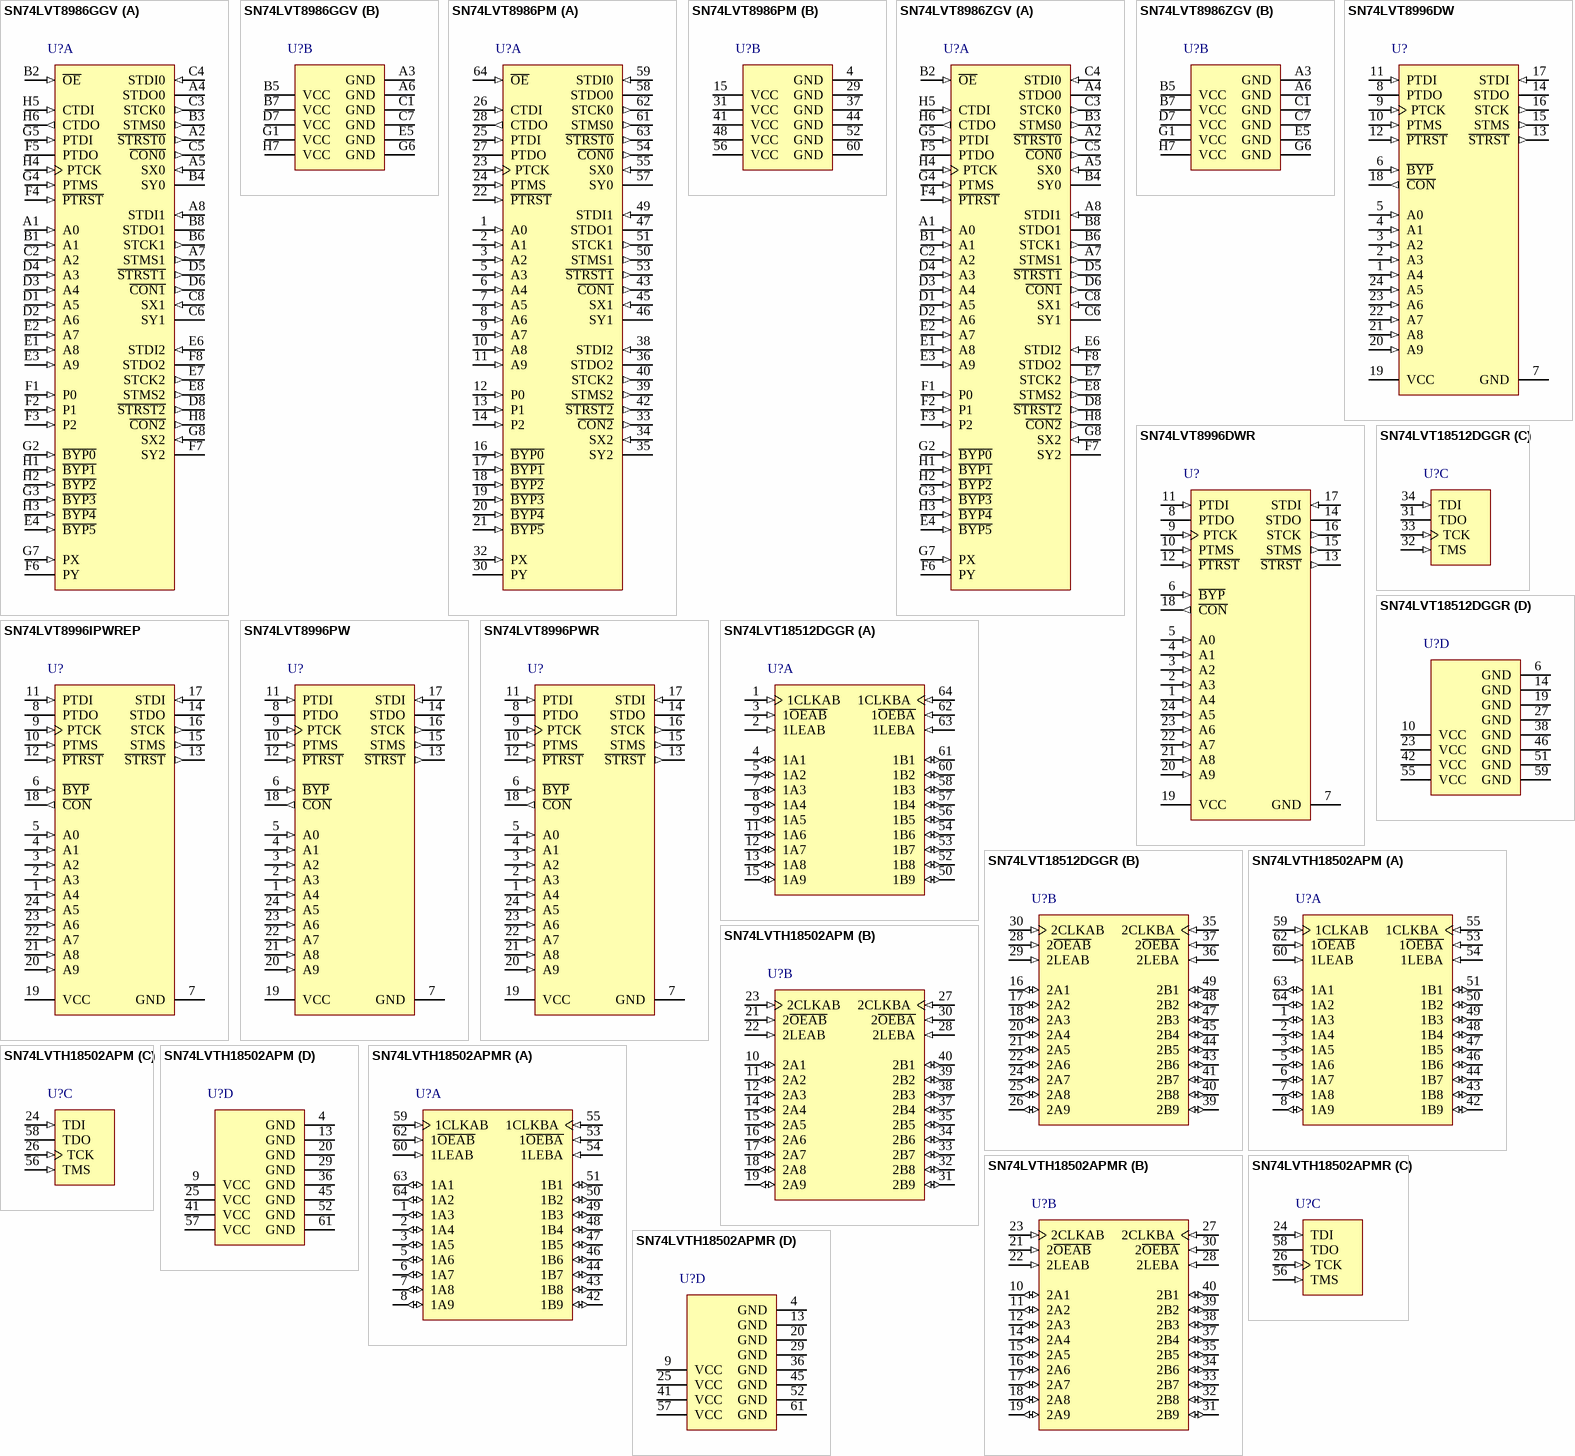
[diagram p82: symbols SN74LVT8986GGV to SN74LVTH18502APMR]